# Altium footprint library 3PhaseMotorDriver.PcbLib: 26 footprints (part 1 of 2)
Each footprint in its own frame and in the unit in brackets; x right, y up, seen from the top. Pads: shape width x height; smd on the part's side, far side on the other; paste and mask are expansions set on the pad; w line width, h text height; cw(c..) or ccw(c..) is an arc to the next point about the centre after c.
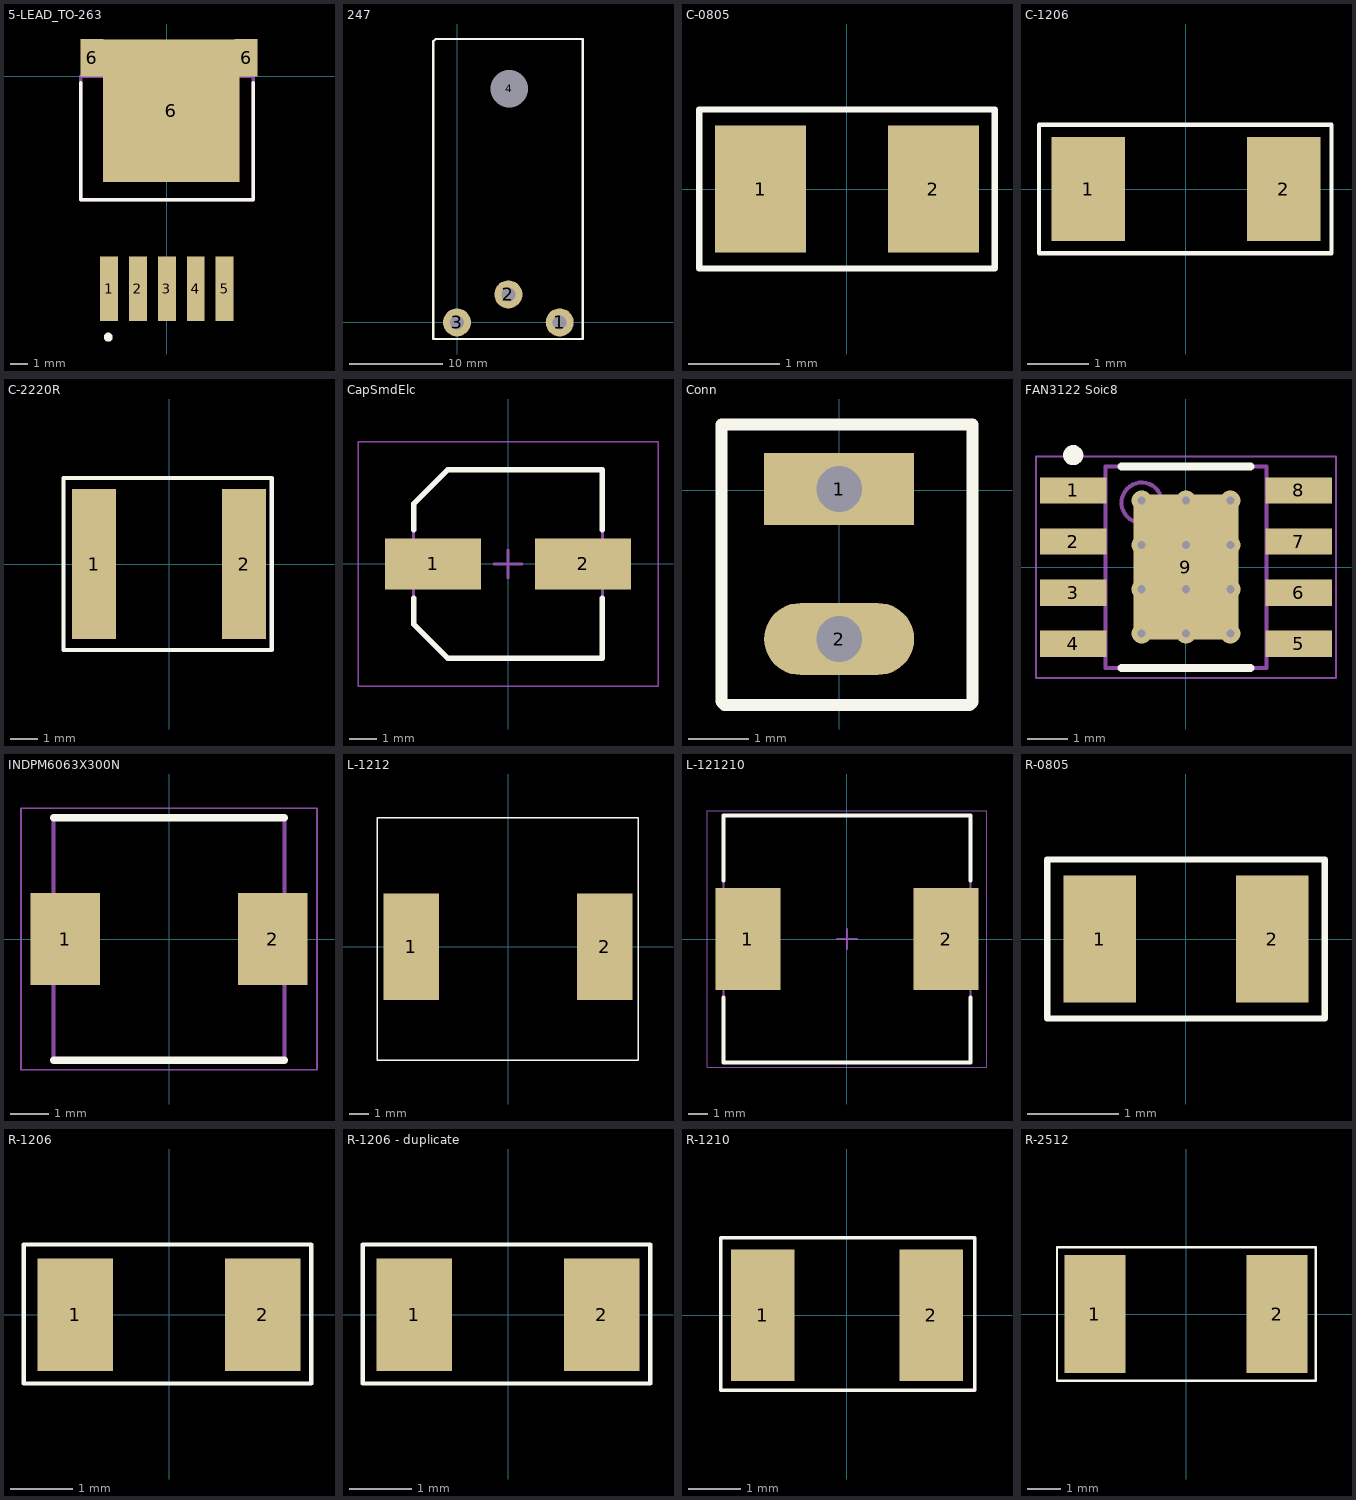
[diagram p0: the footprints below, top view; thin cyan lines are the x and y axes]

## 5-LEAD_TO-263 [mm]
pads (8):
  rect 1.05x3.8 smd: 1(-3.404,-12.5) 2(-1.702,-12.5) 3(0,-12.5) 4(1.702,-12.5) 5(3.404,-12.5)
  rect 1.35x2.2 smd: 6(-4.424,1.106) 6(4.675,1.1)
  rect 8.05x8.4 smd: 6(0.254,-2.032)
Top Overlay:
  circle w0.3: c-3.455,-15.36 r0.113
  lines w0.2: -5.08,-0.379 -5.08,-7.26 5.08,-7.26 5.08,-0.379
Mechanical 13:
  lines w0.2: -5.08,-7.26 -5.08,0 5.08,0 5.08,-7.26 -5.08,-7.26
3D body "LM2596SX-12--3DModel-STEP-56544.STEP": height 4.66, standoff -0.14, extent -5.08,-13.081 5.08,1.27

## 247 [mm]
pads (4):
  round 3 hole 1.5: 1(11,0) 2(5.5,3) 3(0,0)
  round 1.524 hole 4: 4(5.588,25.019)
Top Overlay:
  circle w0.254: c5.588,25.019 r1.55
  lines w0.254: -2.54,-1.778 0.349,-1.778 13.462,-1.778 13.462,30.353 -2.286,30.353 -2.54,30.099 -2.54,-1.778
3D body "TO-247_horizontal_back_triangle_margin.stp": height 5.01, standoff -3.59, extent -2.286,-0.314 13.314,30.286

## C-0805 [mm]
pads (2):
  rect 1x1.4 smd: 1(-0.95,0) 2(0.95,0)
Top Overlay:
  lines w0.07: -1.625,-0.875 -1.625,0.413 -1.625,0.875 1.625,0.875 1.625,-0.875 0.416,-0.875 -0.391,-0.875 -1.625,-0.875
3D body "User Library-CAPC2013X10.STEP": height 1.01, standoff 0.01, extent -1,-0.625 1,0.625

## C-1206 [mm]
pads (2):
  rect 1.2x1.7 smd: 1(-1.6,0) 2(1.6,0)
Top Overlay:
  lines w0.07: -2.4,-1.05 2.375,-1.05 2.375,-0.531 2.375,0.556 2.375,0.692 2.375,1.05 -2.4,1.05 -2.4,-1.05
3D body "User Library-CAPC3216X10.STEP": height 1, standoff 0, extent -1.6,-0.8 1.6,0.8

## C-2220R [mm] "capacitor 2220 reflow soldering"
pads (2):
  rect 1.6x5.4 smd: 1(-2.7,0) 2(2.7,0)
Top Overlay:
  lines w0.152: 2.15,-3.1 3.7,-3.1 3.7,3.1 2.15,3.1 ; 2.275,-3.1 -3.8,-3.1 -3.8,3.1 2.525,3.1
3D body "CAP2220.stp": height 2.24, standoff -0.04, extent -2.85,-2.5 2.85,2.5

## CapSmdElc [mm] "Aluminum Electrolytic Capacitor, Body 6.70x6.70x6.30mm, IPC Low Density"
height 6.3
pads (2):
  rect 3.45x1.85 smd: 1(-2.7,0) 2(2.7,0)
Top Overlay:
  lines w0.2: -3.4,-1.225 -3.4,-2.163 -2.163,-3.4 3.4,-3.4 3.4,-1.225 ; -3.4,1.225 -3.4,2.163 -2.163,3.4 3.4,3.4 3.4,1.225
Top Assembly:
  lines w0.1: -3.4,-2.163 -2.163,-3.4 3.4,-3.4 3.4,3.4 -2.163,3.4 -3.4,2.163 -3.4,-2.163
Top Courtyard:
  lines w0.05: -5.4,-4.4 -5.4,4.4 5.4,4.4 5.4,-4.4 -5.4,-4.4
  lines w0.1: -0.5,0 0.5,0 ; 0,-0.5 0,0.5
3D body "User Library-Nichicon_CW6_3x7.STEP": height 6.92, standoff 0.01, extent -3.45,-3.275 3.55,3.325

## Conn [mm]
pads (2):
  rect 2.5x1.2 hole 0.762 square: 1(0,0.025)
  oval 2.5x1.2 hole 0.762 square: 2(0,-2.475)
Top Overlay:
  lines w0.2: -1.965,-3.52 -1.91,-3.575 2.175,-3.575 2.225,-3.525 2.225,1.1 -1.965,1.1 -1.965,-3.52
3D body "User Library-Header1x2.STEP": height 8.15, standoff -2.83, extent -1.24,-3.74 1.3,1.34

## FAN3122 Soic8 [mm] "SOIC, 8-Leads, Body 4.95x3.95mm, Pitch 1.27mm, Thermal Pad 4.10x3.10mm, IPC Medium Density"
height 1.75
pads (9):
  rect 1.65x0.65 smd: 1(-2.8,1.905) 2(-2.8,0.635) 3(-2.8,-0.635) 4(-2.8,-1.905) 5(2.8,-1.905) 6(2.8,-0.635) 7(2.8,0.635) 8(2.8,1.905)
  rect 2.6x3.6 smd: 9(0,0)
via -1.1,1.65 diameter 0.5 hole 0.2
via 0,1.65 diameter 0.5 hole 0.2
via 1.1,1.65 diameter 0.5 hole 0.2
via -1.1,0.55 diameter 0.5 hole 0.2
via 0,0.55 diameter 0.5 hole 0.2
via 1.1,0.55 diameter 0.5 hole 0.2
via -1.1,-0.55 diameter 0.5 hole 0.2
via 0,-0.55 diameter 0.5 hole 0.2
via 1.1,-0.55 diameter 0.5 hole 0.2
via -1.1,-1.65 diameter 0.5 hole 0.2
via 0,-1.65 diameter 0.5 hole 0.2
via 1.1,-1.65 diameter 0.5 hole 0.2
Top Overlay:
  circle w0.25: c-2.8,2.78 r0.125
  lines w0.2: -1.6,-2.5 1.6,-2.5 ; -1.6,2.5 1.6,2.5
Top Assembly:
  circle w0.1: c-1.1,1.6 r0.5
  lines w0.1: -2,-2.5 -2,2.5 2,2.5 2,-2.5 -2,-2.5
Top Courtyard:
  lines w0.05: -3.725,-2.75 -3.725,2.75 3.725,2.75 3.725,-2.75 -3.725,-2.75
  lines w0.1: -0.5,0 0.5,0 ; 0,-0.5 0,0.5
3D body "User Library-SOIC8_JEDEC_MS-012AA.STEP": height 1.66, standoff -0.09, extent -3.124,-2.55 3.075,2.45

## INDPM6063X300N [mm]
pads (2):
  rect 1.8x2.4 smd: 1(-2.7,0) 2(2.7,0)
Top Overlay:
  lines w0.2: -3,-3.15 3,-3.15 ; -3,3.15 3,3.15
Mechanical 13:
  lines w0.1: -3,-3.15 3,-3.15 3,3.15 -3,3.15 -3,-3.15
Mechanical 15:
  lines w0.05: -3.85,-3.4 3.85,-3.4 3.85,3.4 -3.85,3.4 -3.85,-3.4
3D body "B82462G4333M000.stp": height 3, standoff 0, extent -3,-3.15 3,3.15

## L-1212 [mm]
pads (2):
  rect 2.8x5.4 smd: 1(-4.9,0) 2(4.9,0)
Top Overlay:
  lines w0.07: -6.625,-5.75 -6.625,6.525 6.6,6.525 6.6,-5.75 -6.625,-5.75

## L-121210 [mm] "Precision Wire Wound Inductor, 2-Leads, Body 12.25x12.25mm, IPC Medium Density"
height 10
pads (2):
  rect 3.3x5.15 smd: 1(-5.025,0) 2(5.025,0)
Top Overlay:
  lines w0.2: -6.25,-2.975 -6.25,-6.25 6.25,-6.25 6.25,-2.975 ; -6.25,2.975 -6.25,6.25 6.25,6.25 6.25,2.975
Top Assembly:
  lines w0.1: -6.25,-6.25 6.25,-6.25 6.25,6.25 -6.25,6.25 -6.25,-6.25
Top Courtyard:
  lines w0.05: -7.075,-6.5 7.075,-6.5 7.075,6.5 -7.075,6.5 -7.075,-6.5
  lines w0.1: -0.5,0 0.5,0 ; 0,-0.5 0,0.5
3D body: height 10, standoff 0, extent -6.25,-6.25 6.25,6.25

## R-0805 [mm]
pads (2):
  rect 0.8x1.4 smd: 1(-0.95,0) 2(0.95,0)
Top Overlay:
  lines w0.07: -1.525,-0.875 1.525,-0.875 1.525,0.875 -1.525,0.875 -1.525,-0.875
3D body "User Library-CR2012-0805.STEP": height 0.56, standoff -0.04, extent -1,-0.625 1,0.625

## R-1206 [mm]
pads (2):
  rect 1.2x1.8 smd: 1(-1.5,0) 2(1.5,0)
Top Overlay:
  lines w0.07: -0.275,-1.1 2.275,-1.1 ; -0.275,-1.1 -2.325,-1.1 -2.325,0.625 -2.325,1.125 -1.175,1.125 1.125,1.125 2.275,1.125 2.275,-1.1 ; -0.275,-1.1 2.275,-1.1
3D body "User Library-CR3216-1206.step": height 0.56, standoff -0.04, extent -1.6,-0.775 1.6,0.825

## R-1206 - duplicate [mm]
pads (2):
  rect 1.2x1.8 smd: 1(-1.5,0) 2(1.5,0)
Top Overlay:
  lines w0.07: -0.275,-1.1 2.275,-1.1 ; -0.275,-1.1 -2.325,-1.1 -2.325,0.625 -2.325,1.125 -1.175,1.125 1.125,1.125 2.275,1.125 2.275,-1.1 ; -0.275,-1.1 2.275,-1.1
3D body "User Library-CR3216-1206.step": height 0.56, standoff -0.04, extent -1.6,-0.775 1.6,0.825

## R-1210 [mm]
pads (2):
  rect 1.2x2.5 smd: 1(-1.6,0) 2(1.6,0)
Top Overlay:
  lines w0.07: -2.4,-1.425 -2.4,0.9 -2.4,1.475 2.425,1.475 2.425,-1.425 -0.038,-1.425 -1.512,-1.425 -2.4,-1.425

## R-2512 [mm]
pads (2):
  rect 1.8x3.5 smd: 1(-2.7,0) 2(2.7,0)
Top Overlay:
  lines w0.07: -3.825,-1.975 -3.825,0.525 -3.825,1.975 3.85,1.975 3.85,-1.975 -3.825,-1.975
3D body "User Library-R SMD 2512.STEP": height 0.59, standoff -0.01, extent -3.206,-1.575 3.094,1.575